# Altium integrated library B2405S-2WR3L.IntLib: 1 symbol
Pins are listed as number, name and electrical type; pins without a type are passive.

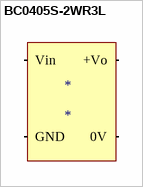
[diagram p0: symbol BC0405S-2WR3L]

## BC0405S-2WR3L
designator *
pins: 1 Vin (power), 2 GND (power), 4 0V (power), 6 +Vo (power)